# Altium schematic symbol library MergenElektronik_Connectors_D-Sub.SchLib: 1 symbol
Pins are listed as number, name and electrical type; pins without a type are passive.

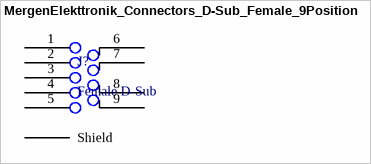
[diagram p0: symbol MergenElekttronik_Connectors_D-Sub_Female_9Position]

## MergenElekttronik_Connectors_D-Sub_Female_9Position
designator J?, comment Female D-Sub
Mergen Elektronik - Connectors - D-Sub - Female 9 Position; Manufacturer: Assmann WSW Components; Manufacturer Number: A-DF 09 A/KG-T2S; Model: D-Sub 9 Position Female Connector; Value: A-DF 09 A/KG-T2S; Number of Postion: 9; Current Rating: 3A; Voltage Rating: 250V; Connector Style: D-Sub; Number of Rows: 2; Connector Type: Female; Temperature: -55°C up to 105°C; Mounting Type: THT; Digi-Key Number: AE10921-ND; Supplier 1: Digi-kEY; Supplier Part Number 1: AE10921-ND
footprint MergenElektronik_Libraries_Connectors_D-Sub_9Position (9 Position)
pins: 1, 2, 3, 4, 5, 6, 7, 8, 9, Shield